# Altium footprint library Components - 19.06.23 - 19.04.PcbLib: 1 footprints
Each footprint in its own frame and in the unit in brackets; x right, y up, seen from the top. Pads: shape width x height; smd on the part's side, far side on the other; paste and mask are expansions set on the pad; w line width, h text height; cw(c..) or ccw(c..) is an arc to the next point about the centre after c.
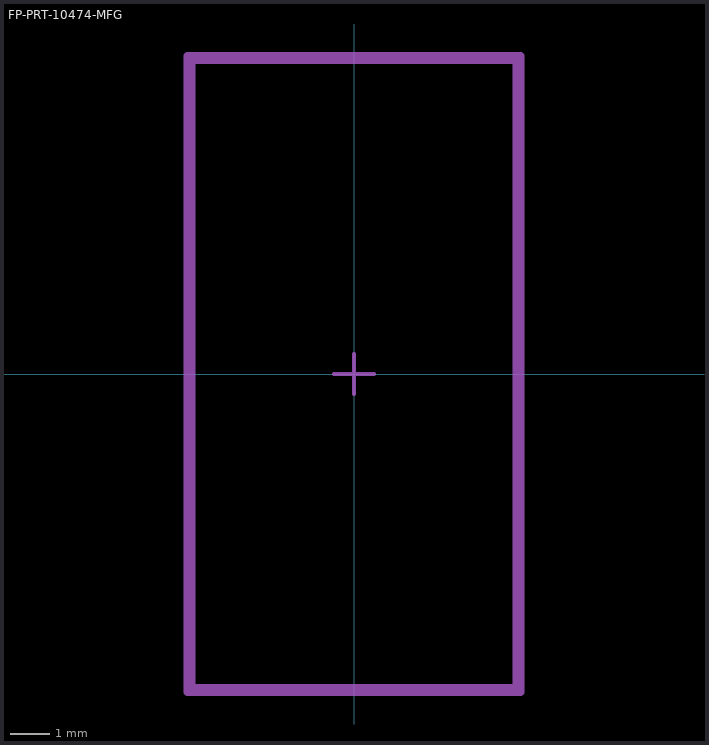
[diagram p0: the footprint, top view; thin cyan lines are the x and y axes]

## FP-PRT-10474-MFG [mm]
Top Assembly:
  lines w0.2: -4.164,-7.967 -4.164,7.967 4.164,7.967 4.164,-7.967 -4.164,-7.967
Top 3D Body:
  lines w0.2: -4.064,-7.868 -4.064,7.868 4.064,7.868 4.064,-7.868 -4.064,-7.868
Top Courtyard:
  lines w0.2: -4.164,-7.967 -4.164,7.967 4.164,7.967 4.164,-7.967 -4.164,-7.967
Top Component Center:
  lines w0.1: -0.5,0 0.5,0 ; 0,-0.5 0,0.5
3D body "Conn_SparkFun_PRT-10474_eec.STEP": height 0.25, standoff 0, extent -4.164,-7.967 4.164,7.967